# EAGLE library part ESP-32-WROOM (library esp32-wroom)
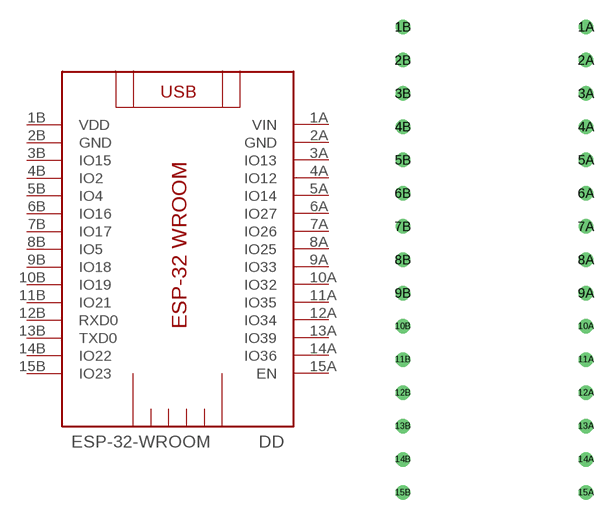
[diagram p0: symbol with the pads of ESP-32-WROOM; footprint ESP-32-WROOM]

Designator prefix DD

## ESP-32-WROOM  [ESP-32-WROOM]
1A  VIN
1B  VDD
2A  GND  pwr
2B  GND  pwr
3A  IO13
3B  IO15
4A  IO12
4B  IO2
5A  IO14
5B  IO4
6A  IO27
6B  IO16
7A  IO26
7B  IO17
8A  IO25
8B  IO5
9A  IO33
9B  IO18
10A  IO32
10B  IO19
11A  IO35
11B  IO21
12A  IO34
12B  RXD0
13A  IO39
13B  TXD0
14A  IO36
14B  IO22
15A  EN  in
15B  IO23

## Footprint ESP-32-WROOM (pad centres in mm)
drill 0.6: 1A 8.89,12.7; 1B -5.08,12.7; 2A 8.89,10.16; 2B -5.08,10.16; 3A 8.89,7.62; 3B -5.08,7.62; 4A 8.89,5.08; 4B -5.08,5.08; 5A 8.89,2.54; 5B -5.08,2.54; 6A 8.89,0; 6B -5.08,0; 7A 8.89,-2.54; 7B -5.08,-2.54; 8A 8.89,-5.08; 8B -5.08,-5.08; 9A 8.89,-7.62; 9B -5.08,-7.62; 10A 8.89,-10.16; 10B -5.08,-10.16; 11A 8.89,-12.7; 11B -5.08,-12.7; 12A 8.89,-15.24; 12B -5.08,-15.24; 13A 8.89,-17.78; 13B -5.08,-17.78; 14A 8.89,-20.32; 14B -5.08,-20.32; 15A 8.89,-22.86; 15B -5.08,-22.86